# Altium footprint library RES_2K.PcbLib: 3 footprints
Each footprint in its own frame and in the unit in brackets; x right, y up, seen from the top. Pads: shape width x height; smd on the part's side, far side on the other; paste and mask are expansions set on the pad; w line width, h text height; cw(c..) or ccw(c..) is an arc to the next point about the centre after c.
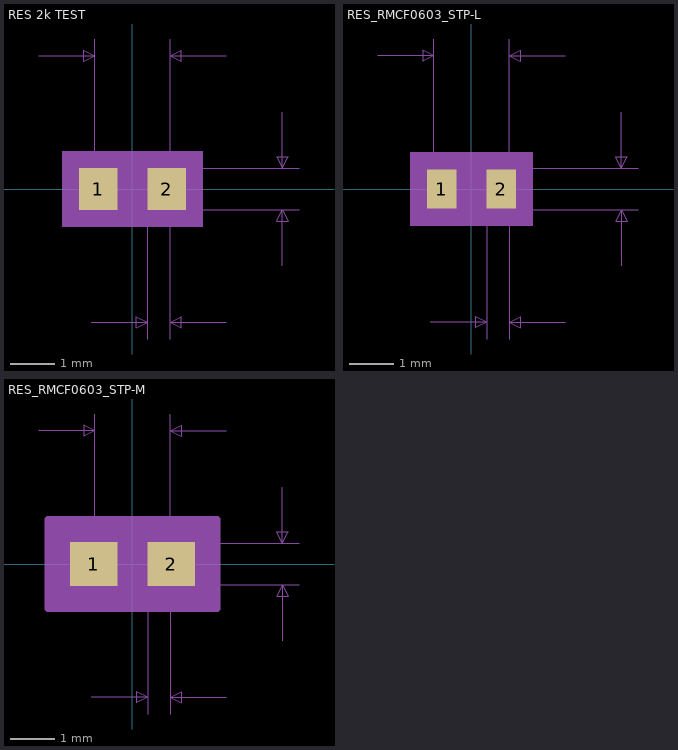
[diagram p0: the footprints below, top view; thin cyan lines are the x and y axes]

## RES 2k TEST [mil]
pads (2):
  rect 34x37 smd paste+0 mask+0: 1(-30.5,0) 2(30.5,0)
Mechanical 5:
  region: 62.5,-33.5 -62.5,-33.5 -62.5,33.5 62.5,33.5
Mechanical 7:
  lines w1: -83.5,118.5 -33.5,118.5 ; -36.5,-118.5 13.5,-118.5 ; -33.5,0 -33.5,133.5 ; 0,-18.5 148.5,-18.5 ; 0,18.5 148.5,18.5 ; 13.5,-133.5 13.5,0 ; 33.5,-133.5 33.5,0 33.5,133.5 ; 83.5,-118.5 33.5,-118.5 ; 83.5,118.5 33.5,118.5 ; 133.5,-68.5 133.5,-18.5 ; 133.5,68.5 133.5,18.5 ; -33.5,118.5 -43.5,113.5 -43.5,123.5 -33.5,118.5 ; 13.5,-118.5 3.5,-123.5 3.5,-113.5 13.5,-118.5 ; 33.5,-118.5 43.5,-123.5 43.5,-113.5 33.5,-118.5 ; 33.5,118.5 43.5,113.5 43.5,123.5 33.5,118.5 ; 133.5,-18.5 138.5,-28.5 128.5,-28.5 133.5,-18.5 ; 133.5,18.5 138.5,28.5 128.5,28.5 133.5,18.5
  text "0.02in/0.508mm" at -64,-163.5 h25
  text "0.067in/1.702mm" at -93.75,138.5 h25
  text "0.037in/0.94mm" at 153.5,-12.5 h25
  text "Alternate 2 Padstyle: OX90Y60D30P" at -412.5,-488.5 h50
  text "Alternate 1 Padstyle: OX60Y90D30P" at -412.5,-388.5 h50
  text "Default Padstyle: RX34Y37D0T" at -350,-288.5 h50
Mechanical 13:
  lines w1: -33.5,-18.5 -33.5,18.5 ; -33.5,-18.5 33.5,-18.5 ; -33.5,-18.5 -13.5,-18.5 -13.5,18.5 -33.5,18.5 ; -33.5,-18.5 -33.5,18.5 ; -33.5,18.5 33.5,18.5 ; 33.5,-18.5 33.5,18.5 ; 33.5,-18.5 33.5,18.5 ; 33.5,-18.5 13.5,-18.5 13.5,18.5 33.5,18.5
Mechanical 15:
  region: 57.5,-28.5 -57.5,-28.5 -57.5,28.5 57.5,28.5
  lines w6: -57.5,-28.5 57.5,-28.5 57.5,28.5 -57.5,28.5 -57.5,-28.5
3D body: height 10, standoff 0, extent 0,0 10,10

## RES_RMCF0603_STP-L [mil]
pads (2):
  rect 26x35 smd paste+0 mask+0: 1(-26.5,0) 2(26.5,0)
Mechanical 5:
  region: 54.5,-32.5 -54.5,-32.5 -54.5,32.5 54.5,32.5
Mechanical 7:
  lines w1: -83.5,118.5 -33.5,118.5 ; -36.5,-118.5 13.5,-118.5 ; -33.5,0 -33.5,133.5 ; 0,-18.5 148.5,-18.5 ; 0,18.5 148.5,18.5 ; 13.5,-133.5 13.5,0 ; 33.5,-133.5 33.5,0 33.5,133.5 ; 83.5,-118.5 33.5,-118.5 ; 83.5,118.5 33.5,118.5 ; 133.5,-68.5 133.5,-18.5 ; 133.5,68.5 133.5,18.5 ; -33.5,118.5 -43.5,123.5 -43.5,113.5 -33.5,118.5 ; 13.5,-118.5 3.5,-113.5 3.5,-123.5 13.5,-118.5 ; 33.5,-118.5 43.5,-113.5 43.5,-123.5 33.5,-118.5 ; 33.5,118.5 43.5,123.5 43.5,113.5 33.5,118.5 ; 133.5,-18.5 128.5,-28.5 138.5,-28.5 133.5,-18.5 ; 133.5,18.5 128.5,28.5 138.5,28.5 133.5,18.5
  text "Default Padstyle: RX26Y35D0T" at -350,-287.5 h50
  text "Alternate 1 Padstyle: OX60Y90D30P" at -412.5,-387.5 h50
  text "Alternate 2 Padstyle: OX90Y60D30P" at -412.5,-487.5 h50
  text "0.037in/0.94mm" at 153.5,-12.5 h25
  text "0.067in/1.702mm" at -93.75,138.5 h25
  text "0.02in/0.508mm" at -64,-163.5 h25
Mechanical 13:
  lines w1: -33.5,-18.5 -33.5,18.5 ; -33.5,-18.5 -13.5,-18.5 -13.5,18.5 -33.5,18.5 ; -33.5,-18.5 33.5,-18.5 ; -33.5,-18.5 -33.5,18.5 ; -33.5,18.5 33.5,18.5 ; 33.5,-18.5 13.5,-18.5 13.5,18.5 33.5,18.5 ; 33.5,-18.5 33.5,18.5 ; 33.5,-18.5 33.5,18.5
Mechanical 15:
  region: 43.5,-21.5 -43.5,-21.5 -43.5,21.5 43.5,21.5
  lines w6: -43.5,-21.5 -43.5,21.5 43.5,21.5 43.5,-21.5 -43.5,-21.5
3D body: height 10, standoff 0, extent 0,0 10,10

## RES_RMCF0603_STP-M [mil]
pads (2):
  rect 42x39 smd paste+0 mask+0: 1(-34.5,0) 2(34.5,0)
Mechanical 5:
  region: 70.5,-34.5 -70.5,-34.5 -70.5,34.5 70.5,34.5
Mechanical 7:
  lines w1: -83.5,118.5 -33.5,118.5 ; -36.5,-118.5 13.5,-118.5 ; -33.5,0 -33.5,133.5 ; 0,-18.5 148.5,-18.5 ; 0,18.5 148.5,18.5 ; 13.5,-133.5 13.5,0 ; 33.5,-133.5 33.5,0 33.5,133.5 ; 83.5,-118.5 33.5,-118.5 ; 83.5,118.5 33.5,118.5 ; 133.5,-68.5 133.5,-18.5 ; 133.5,68.5 133.5,18.5 ; -33.5,118.5 -43.5,123.5 -43.5,113.5 -33.5,118.5 ; 13.5,-118.5 3.5,-113.5 3.5,-123.5 13.5,-118.5 ; 33.5,-118.5 43.5,-113.5 43.5,-123.5 33.5,-118.5 ; 33.5,118.5 43.5,123.5 43.5,113.5 33.5,118.5 ; 133.5,-18.5 128.5,-28.5 138.5,-28.5 133.5,-18.5 ; 133.5,18.5 128.5,28.5 138.5,28.5 133.5,18.5
  text "Default Padstyle: RX42Y39D0T" at -350,-289.5 h50
  text "Alternate 1 Padstyle: OX60Y90D30P" at -412.5,-389.5 h50
  text "Alternate 2 Padstyle: OX90Y60D30P" at -412.5,-489.5 h50
  text "0.037in/0.94mm" at 153.5,-12.5 h25
  text "0.067in/1.702mm" at -93.75,138.5 h25
  text "0.02in/0.508mm" at -64,-163.5 h25
Mechanical 13:
  lines w1: -33.5,-18.5 -33.5,18.5 ; -33.5,-18.5 -13.5,-18.5 -13.5,18.5 -33.5,18.5 ; -33.5,-18.5 33.5,-18.5 ; -33.5,-18.5 -33.5,18.5 ; -33.5,18.5 33.5,18.5 ; 33.5,-18.5 13.5,-18.5 13.5,18.5 33.5,18.5 ; 33.5,-18.5 33.5,18.5 ; 33.5,-18.5 33.5,18.5
Mechanical 15:
  region: 75.5,-39.5 -75.5,-39.5 -75.5,39.5 75.5,39.5
  lines w6: -75.5,-39.5 -75.5,39.5 75.5,39.5 75.5,-39.5 -75.5,-39.5
3D body: height 10, standoff 0, extent 0,0 10,10